# Altium schematic symbol library Components - 25.10.25 - 14.32.SchLib: 1 symbol
Pins are listed as number, name and electrical type; pins without a type are passive.

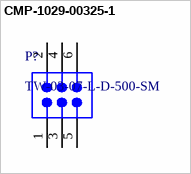
[diagram p0: symbol CMP-1029-00325-1]

## CMP-1029-00325-1
designator P?, comment TW-03-07-L-D-500-SM
SMT Board Stacker, Vertical, -55 to 125 degC, 2 mm Pitch, 6-Pin, Male, RoHS; Manufacturer: Samtec; Pitch: 2 mm; PackageReference: TW-03-07-X-D-500-SM; PackageVersion: CL, 3/1993; ComponentLink3URL: http://www.samtec.com/documents/webfiles/cpdf/TW-XX-XX-XXX-X-XXX-SM-XXX-XX-MKT1.pdf; ComponentLink2Description: Datasheet; PartNumber: TW-03-07-L-D-500-SM; Mounting Technology: Surface Mount; RoHS: True; PackageDescription: High Temp 2mm SMT Board Stacking Terminal Strip ASM; ComponentLink1URL: http://www.samtec.com; ComponentLink2URL: http://d2a072wq521u33.cloudfront.net/catalog_english//TW_SM.PDF; Orientation: Vertical; ComponentLink3Description: Package Specification; Temperature Range: -55 to 125 degC; DatasheetVersion: F-214; ComponentLink1Description: Manufacturer URL
footprint SMTC-TW-03-07-X-D-500-SM (SMT Board Stacking Terminal Strip ASM, 2x3 Pins, Vertical, 2mm Pitch, Male)
pins: 1, 2, 3, 4, 5, 6